# Altium footprint library Frost5000Beta_LIB_Integrados_PCB.PcbLib: 12 footprints
Each footprint in its own frame and in the unit in brackets; x right, y up, seen from the top. Pads: shape width x height; smd on the part's side, far side on the other; paste and mask are expansions set on the pad; w line width, h text height; cw(c..) or ccw(c..) is an arc to the next point about the centre after c.
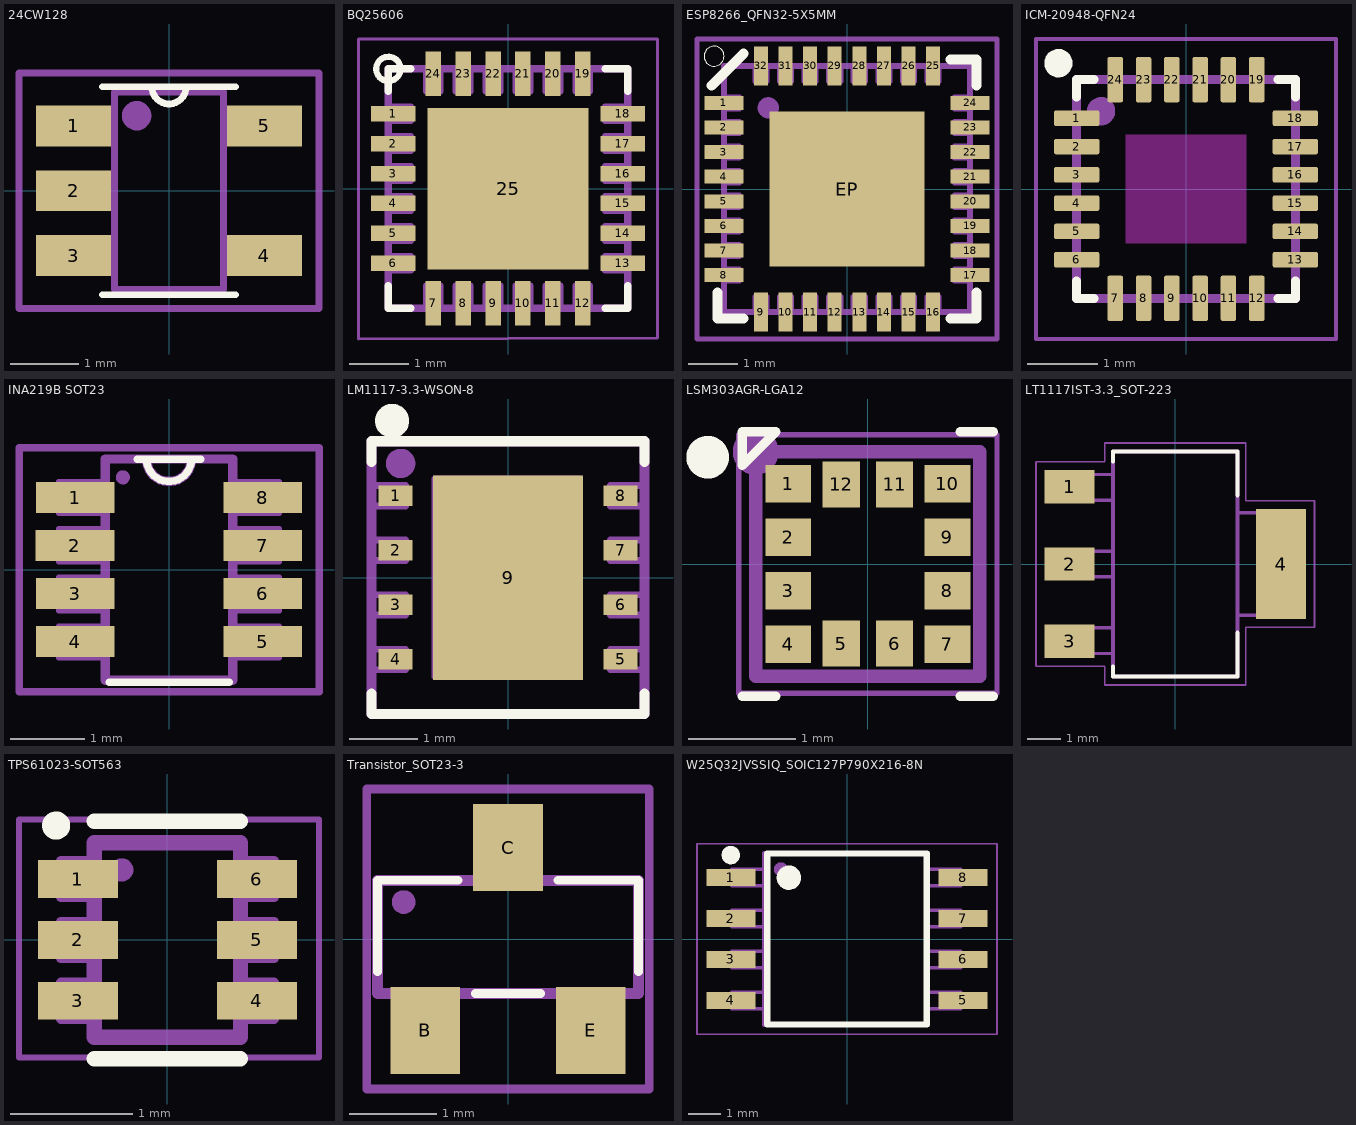
[diagram p0: the footprints below, top view; thin cyan lines are the x and y axes]

## 24CW128 [mm] "Footprint EEPROM SOT23"
pads (5):
  rect 1.1x0.6 smd: 1(-1.4,0.95) 2(-1.4,0) 3(-1.4,-0.95) 4(1.4,-0.95) 5(1.4,0.95)
Top Overlay:
  lines w0.1: -0.975,-1.525 0.975,-1.525 ; -0.975,1.525 0.975,1.525 ; -0.251,1.525 ccw(c0,1.525) 0.251,1.525
Mechanical 13:
  circle w0.25: c-0.475,1.1 r0.09
  lines w0.1: -0.8,-1.175 -1.425,-1.175 -1.425,-0.725 -0.8,-0.725 ; -0.8,-0.225 -1.425,-0.225 -1.425,0.225 -0.8,0.225 ; -0.8,0.725 -1.425,0.725 -1.425,1.175 -0.8,1.175 ; 0.8,0.725 1.425,0.725 1.425,1.175 0.8,1.175 ; 0.85,-1.175 1.475,-1.175 1.475,-0.725 0.85,-0.725 ; -0.8,-1.45 -0.8,1.45 0.8,1.45 0.8,-1.45 -0.8,-1.45
  text "'.Designator'" at -0.175,0.675 h0.5
Mechanical 15:
  lines w0.1: -2.2,-1.725 -2.2,1.725 2.2,1.725 2.2,-1.725 -2.2,-1.725
3D body "SOT-23-5-EEPROM.step": height 1.11, standoff 0.01, extent -1.25,-1.5 1.25,1.5

## BQ25606 [mm] "Footprint BQ25606 Charger"
pads (25):
  rect 0.74x0.26 smd mask+0.065: 1(-1.92,1.25) 2(-1.92,0.75) 3(-1.92,0.25) 4(-1.92,-0.25) 5(-1.92,-0.75) 6(-1.92,-1.25) 13(1.92,-1.25) 14(1.92,-0.75) 15(1.92,-0.25) 16(1.92,0.25) 17(1.92,0.75) 18(1.92,1.25)
  rect 0.26x0.74 smd mask+0.065: 7(-1.25,-1.92) 8(-0.75,-1.92) 9(-0.25,-1.92) 10(0.25,-1.92) 11(0.75,-1.92) 12(1.25,-1.92) 19(1.25,1.92) 20(0.75,1.92) 21(0.25,1.92) 22(-0.25,1.92) 23(-0.75,1.92) 24(-1.25,1.92)
  rect 2.7x2.7 smd mask+0.065: 25(0,0)
Top Overlay:
  circle w0.102: c-2,2 r0.203
  lines w0.127: -2,-1.63 -2,-2 -1.63,-2 ; -2,1.63 -2,2 -1.63,2 ; 1.63,-2 2,-2 2,-1.63 ; 1.63,2 2,2 2,1.63
Top Paste:
  region: 0.13,-0.13 1.09,-0.13 1.09,-1.093 0.13,-1.093
  region: -1.092,-0.13 -0.13,-0.13 -0.13,-1.092 -1.092,-1.092
  region: -1.091,1.09 -0.13,1.09 -0.13,0.13 -1.091,0.13
  region: 0.13,1.09 1.09,1.09 1.09,0.13 0.13,0.13
Mechanical 13:
  circle w0.25: c-1.125,1.125 r0.09
  lines w0.1: -2,-1.375 -1.625,-1.375 -1.625,-1.125 -2,-1.125 ; -2,-0.875 -1.625,-0.875 -1.625,-0.625 -2,-0.625 ; -2,-0.375 -1.625,-0.375 -1.625,-0.125 -2,-0.125 ; -2,0.125 -1.625,0.125 -1.625,0.375 -2,0.375 ; -2,0.625 -1.625,0.625 -1.625,0.875 -2,0.875 ; -2,1.125 -1.625,1.125 -1.625,1.375 -2,1.375 ; -1.375,-2 -1.375,-1.625 -1.125,-1.625 -1.125,-2 ; -1.375,2 -1.375,1.625 -1.125,1.625 -1.125,2 ; -0.875,-2 -0.875,-1.625 -0.625,-1.625 -0.625,-2 ; -0.875,2 -0.875,1.625 -0.625,1.625 -0.625,2 ; -0.375,-2 -0.375,-1.625 -0.125,-1.625 -0.125,-2 ; -0.375,2 -0.375,1.625 -0.125,1.625 -0.125,2 ; 0.125,-2 0.125,-1.625 0.375,-1.625 0.375,-2 ; 0.125,2 0.125,1.625 0.375,1.625 0.375,2 ; 0.625,-2 0.625,-1.625 0.875,-1.625 0.875,-2 ; 0.625,2 0.625,1.625 0.875,1.625 0.875,2 ; 1.125,-2 1.125,-1.625 1.375,-1.625 1.375,-2 ; 1.125,2 1.125,1.625 1.375,1.625 1.375,2 ; 2,-1.375 1.625,-1.375 1.625,-1.125 2,-1.125 ; 2,-0.875 1.625,-0.875 1.625,-0.625 2,-0.625 ; 2,-0.375 1.625,-0.375 1.625,-0.125 2,-0.125 ; 2,0.125 1.625,0.125 1.625,0.375 2,0.375 ; 2,0.625 1.625,0.625 1.625,0.875 2,0.875 ; 2,1.125 1.625,1.125 1.625,1.375 2,1.375
  lines w0.127: -2,-2 2,-2 ; -2,-2 2,-2 ; -2,-2 -2,2 ; -2,-2 -2,2 ; -2,2 2,2 ; -2,2 2,2 ; 2,-2 2,2 ; 2,-2 2,2
  text "'.Designator'" at -1.125,-0.2 h0.5
Mechanical 15:
  lines w0.05: -2.5,-2.516 2.5,-2.5 2.5,2.5 -2.5,2.5 -2.5,-2.516
3D body "BQ25606-VQFN24.step": height 1.07, standoff -0.01, extent -2.05,-2.05 2.05,2.05

## ESP8266_QFN32-5X5MM [mm] "Footprint del ESP8266EX"
pads (33):
  rect 0.8x0.285 smd mask+0.065: 1(-2.5,1.75) 2(-2.5,1.25) 3(-2.5,0.75) 4(-2.5,0.25) 5(-2.5,-0.25) 6(-2.5,-0.75) 7(-2.5,-1.25) 8(-2.5,-1.75) 17(2.5,-1.75) 18(2.5,-1.25) 19(2.5,-0.75) 20(2.5,-0.25) 21(2.5,0.25) 22(2.5,0.75) 23(2.5,1.25) 24(2.5,1.75)
  rect 0.285x0.8 smd mask+0.065: 9(-1.75,-2.5) 10(-1.25,-2.5) 11(-0.75,-2.5) 12(-0.25,-2.5) 13(0.25,-2.5) 14(0.75,-2.5) 15(1.25,-2.5) 16(1.75,-2.5) 25(1.75,2.5) 26(1.25,2.5) 27(0.75,2.5) 28(0.25,2.5) 29(-0.25,2.5) 30(-0.75,2.5) 31(-1.25,2.5) 32(-1.75,2.5)
  rect 3.15x3.15 smd paste-3: EP(0,0)
Top Overlay:
  circle w0: c-2.7,2.7 r0.203
  lines w0.203: -2.754,2.1 -2.1,2.754 ; -2.627,-2.1 -2.627,-2.627 -2.1,-2.627 ; 2.1,-2.627 2.627,-2.627 2.627,-2.1 ; 2.1,2.627 2.627,2.627 2.627,2.1
Top Paste:
  region: -0.15,0.15 -1.45,0.15 -1.45,1.45 -0.15,1.45
  region: 1.45,0.15 0.15,0.15 0.15,1.45 1.45,1.45
  region: -0.15,-1.45 -1.45,-1.45 -1.45,-0.15 -0.15,-0.15
  region: 1.45,-1.45 0.15,-1.45 0.15,-0.15 1.45,-0.15
Mechanical 13:
  circle w0.25: c-1.6,1.65 r0.09
  lines w0.1: -2.5,-1.875 -2.18,-1.875 -2.18,-1.625 -2.5,-1.625 ; -2.5,-1.375 -2.18,-1.375 -2.18,-1.125 -2.5,-1.125 ; -2.5,-0.875 -2.18,-0.875 -2.18,-0.625 -2.5,-0.625 ; -2.5,-0.375 -2.18,-0.375 -2.18,-0.125 -2.5,-0.125 ; -2.5,0.125 -2.18,0.125 -2.18,0.375 -2.5,0.375 ; -2.5,0.625 -2.18,0.625 -2.18,0.875 -2.5,0.875 ; -2.5,1.125 -2.18,1.125 -2.18,1.375 -2.5,1.375 ; -2.5,1.625 -2.18,1.625 -2.18,1.875 -2.5,1.875 ; -1.875,-2.5 -1.875,-2.18 -1.625,-2.18 -1.625,-2.5 ; -1.875,2.5 -1.875,2.18 -1.625,2.18 -1.625,2.5 ; -1.375,-2.5 -1.375,-2.18 -1.125,-2.18 -1.125,-2.5 ; -1.375,2.5 -1.375,2.18 -1.125,2.18 -1.125,2.5 ; -0.875,-2.5 -0.875,-2.18 -0.625,-2.18 -0.625,-2.5 ; -0.875,2.5 -0.875,2.18 -0.625,2.18 -0.625,2.5 ; -0.375,-2.5 -0.375,-2.18 -0.125,-2.18 -0.125,-2.5 ; -0.375,2.5 -0.375,2.18 -0.125,2.18 -0.125,2.5 ; 0.125,-2.5 0.125,-2.18 0.375,-2.18 0.375,-2.5 ; 0.125,2.5 0.125,2.18 0.375,2.18 0.375,2.5 ; 0.625,-2.5 0.625,-2.18 0.875,-2.18 0.875,-2.5 ; 0.625,2.5 0.625,2.18 0.875,2.18 0.875,2.5 ; 1.125,-2.5 1.125,-2.18 1.375,-2.18 1.375,-2.5 ; 1.125,2.5 1.125,2.18 1.375,2.18 1.375,2.5 ; 1.625,-2.5 1.625,-2.18 1.875,-2.18 1.875,-2.5 ; 1.625,2.5 1.625,2.18 1.875,2.18 1.875,2.5 ; 2.5,-1.875 2.18,-1.875 2.18,-1.625 2.5,-1.625 ; 2.5,-1.375 2.18,-1.375 2.18,-1.125 2.5,-1.125 ; 2.5,-0.875 2.18,-0.875 2.18,-0.625 2.5,-0.625 ; 2.5,-0.375 2.18,-0.375 2.18,-0.125 2.5,-0.125 ; 2.5,0.125 2.18,0.125 2.18,0.375 2.5,0.375 ; 2.5,0.625 2.18,0.625 2.18,0.875 2.5,0.875 ; 2.5,1.125 2.18,1.125 2.18,1.375 2.5,1.375 ; 2.5,1.625 2.18,1.625 2.18,1.875 2.5,1.875
  lines w0.127: -2.5,-2.5 2.5,-2.5 2.5,2.5 -2.5,2.5 -2.5,-2.5
  text "'.Designator'" at -1.125,-0.2 h0.5
Mechanical 15:
  lines w0.102: -3.048,-3.048 -3.048,3.048 3.048,3.048 3.048,-3.048 -3.048,-3.048
3D body: height 1.55, standoff 0, extent 0,0 0,0
3D body "ESP8266EX.STEP": height 0.91, standoff 0.01, extent -2.5,-2.5 2.5,2.5

## ICM-20948-QFN24 [mm] "Footprint ICM-20948"
pads (24):
  rrect25% 0.64x0.22 smd mask+0.06: 1(-1.545,1) 2(-1.545,0.6) 3(-1.545,0.2) 4(-1.545,-0.2) 5(-1.545,-0.6) 6(-1.545,-1) 13(1.545,-1) 14(1.545,-0.6) 15(1.545,-0.2) 16(1.545,0.2) 17(1.545,0.6) 18(1.545,1)
  rrect25% 0.22x0.64 smd mask+0.06: 7(-1,-1.545) 8(-0.6,-1.545) 9(-0.2,-1.545) 10(0.2,-1.545) 11(0.6,-1.545) 12(1,-1.545) 19(1,1.545) 20(0.6,1.545) 21(0.2,1.545) 22(-0.2,1.545) 23(-0.6,1.545) 24(-1,1.545)
Top Overlay:
  circle w0.2: c-1.803,1.778 r0.1
  lines w0.127: -1.55,-1.3 -1.55,-1.55 -1.3,-1.55 ; -1.55,1.3 -1.55,1.55 -1.3,1.55 ; 1.3,-1.55 1.55,-1.55 1.55,-1.3 ; 1.3,1.55 1.55,1.55 1.55,1.3
Keep-Out Layer:
  region: 0.85,-0.77 -0.85,-0.77 -0.85,0.77 0.85,0.77
  region: 0.85,-0.77 -0.85,-0.77 -0.85,0.77 0.85,0.77
Mechanical 13:
  circle w0.2: c-1.2,1.1 r0.1
  lines w0.127: -1.55,-1.55 -1.55,1.55 1.55,1.55 1.55,-1.55 -1.55,-1.55
  text "'.Designator'" at -0.85,-0.25 h0.5
Mechanical 15:
  lines w0.05: -2.12,-2.12 -2.12,2.12 2.12,2.12 2.12,-2.12 -2.12,-2.12
3D body "ICM-20948.step": height 1.01, standoff 0.01, extent -1.499,-1.53 1.511,1.48

## INA219B SOT23 [mm] "Current Monitor"
pads (8):
  rect 1.067x0.42 smd mask+0.09: 1(-1.27,0.975) 2(-1.275,0.325) 3(-1.27,-0.325) 4(-1.27,-0.975) 5(1.27,-0.975) 6(1.27,-0.325) 7(1.27,0.325) 8(1.27,0.975)
Top Overlay:
  lines w0.102: -0.813,-1.524 0.813,-1.524 ; -0.432,1.499 -0.305,1.499 ; 0.432,1.499 0.305,1.499 ; -0.305,1.499 ccw(c0,1.499) 0.305,1.499 ; -0.305,1.499 0.305,1.499
Mechanical 13:
  circle w0.1: c-0.625,1.25 r0.045
  lines w0.07: -0.864,-1.194 -1.499,-1.194 -1.499,-0.762 -0.864,-0.762 ; -0.864,-0.559 -1.499,-0.559 -1.499,-0.102 -0.864,-0.102 ; -0.864,0.102 -1.499,0.102 -1.499,0.559 -0.864,0.559 ; -0.864,0.762 -1.499,0.762 -1.499,1.194 -0.864,1.194 ; 0.864,-1.194 1.499,-1.194 1.499,-0.762 0.864,-0.762 ; 0.864,-0.559 1.499,-0.559 1.499,-0.102 0.864,-0.102 ; 0.864,0.102 1.499,0.102 1.499,0.559 0.864,0.559 ; 0.864,0.762 1.499,0.762 1.499,1.194 0.864,1.194
  lines w0.127: -0.305,1.499 ccw(c0,1.499) 0.305,1.499 ; -0.305,1.499 0.305,1.499 ; -0.305,1.499 -0.864,1.499 -0.864,1.194 -0.864,0.762 -0.864,0.559 -0.864,0.102 -0.864,-0.102 -0.864,-0.559 -0.864,-0.762 -0.864,-1.194 -0.864,-1.499 0.864,-1.499 0.864,-1.194 0.864,-0.762 0.864,-0.559 0.864,-0.102 0.864,0.102 0.864,0.559 0.864,0.762 0.864,1.194 0.864,1.499 0.305,1.499
  text "'.Designator'" at -0.225,0.475 h0.5
Mechanical 15:
  lines w0.102: -2.032,-1.651 -2.032,1.651 2.032,1.651 2.032,-1.651 -2.032,-1.651
3D body "INA219_SOT23.STEP": height 1.2, standoff 0, extent -1.4,-1.47 1.4,1.47

## LM1117-3.3-WSON-8 [mm] "Footprint del LDO de Texas"
pads (9):
  rect 0.5x0.3 smd mask+0.07: 1(-1.65,1.2) 2(-1.65,0.4) 3(-1.65,-0.4) 4(-1.65,-1.2) 5(1.65,-1.2) 6(1.65,-0.4) 7(1.65,0.4) 8(1.65,1.2)
  rect 2.2x3 smd mask+0.07: 9(0,0)
Top Overlay:
  circle w0.3: c-1.7,2.3 r0.1
  lines w0.15: -2,-1.7 -2,-2 2,-2 2,-1.7 ; -2,1.7 -2,2 2,2 2,1.7
Mechanical 13:
  circle w0.25: c-1.575,1.675 r0.09
  lines w0.1: -2,-1.35 -1.5,-1.35 -1.5,-1.05 -2,-1.05 ; -2,-0.55 -1.5,-0.55 -1.5,-0.25 -2,-0.25 ; -2,0.25 -1.5,0.25 -1.5,0.55 -2,0.55 ; -2,1.05 -1.5,1.05 -1.5,1.35 -2,1.35 ; 2,-1.35 1.5,-1.35 1.5,-1.05 2,-1.05 ; 2,-0.55 1.5,-0.55 1.5,-0.25 2,-0.25 ; 2,0.25 1.5,0.25 1.5,0.55 2,0.55 ; 2,1.05 1.5,1.05 1.5,1.35 2,1.35 ; -1.075,-1.45 -1.075,1.45 1.05,1.45 1.05,-1.45 -1.075,-1.45
  lines w0.127: -2,-2 -2,2 2,2 2,-2 -2,-2
  text "'.Designator'" at -0.725,-0.25 h0.5
Mechanical 15:
  lines w0.15: -2,-2 -2,2 ; -2,-2 2,-2 ; -2,-2 2,-2 ; -2,-2 -2,2 ; -2,-2 2,-2 ; -2,-2 -2,2 ; -2,2 2,2 ; -2,2 2,2 ; -2,2 2,2 ; 2,-2 2,2 ; 2,-2 2,2 ; 2,-2 2,2
3D body "LM1117-33-WSON.STEP": height 0.81, standoff 0.01, extent -2.001,-2 2.001,2

## LSM303AGR-LGA12 [mm] "Footprint LSM303AGR"
pads (12):
  rect 0.43x0.35 smd mask+0.033: 1(-0.745,0.75) 2(-0.745,0.25) 3(-0.745,-0.25) 4(-0.745,-0.75) 7(0.745,-0.75) 8(0.745,-0.25) 9(0.745,0.25) 10(0.745,0.75)
  rect 0.35x0.43 smd mask+0.033: 5(-0.25,-0.745) 6(0.25,-0.745) 11(0.25,0.745) 12(-0.25,0.745)
Top Overlay:
  circle w0.2: c-1.5,1 r0.1
  lines w0.09: -1.175,-1.239 -0.865,-1.239 ; 0.865,-1.239 1.175,-1.239 ; 0.865,1.239 1.175,1.239 ; -1.175,0.925 -0.861,1.239 -1.175,1.239 -1.175,0.925
Mechanical 13:
  circle w0.25: c-1.05,1.05 r0.09
  lines w0.05: -0.875,-0.875 -0.875,-0.65 -0.625,-0.65 -0.625,-0.875 -0.875,-0.875 ; -0.875,-0.35 -0.875,-0.125 -0.625,-0.125 -0.625,-0.35 -0.875,-0.35 ; -0.875,0.15 -0.875,0.375 -0.625,0.375 -0.625,0.15 -0.875,0.15 ; -0.875,0.65 -0.625,0.65 -0.625,0.875 -0.875,0.875 -0.875,0.65 ; -0.375,-0.875 -0.375,-0.65 -0.125,-0.65 -0.125,-0.875 -0.375,-0.875 ; -0.375,0.65 -0.375,0.875 -0.125,0.875 -0.125,0.65 -0.375,0.65 ; 0.125,-0.875 0.125,-0.65 0.375,-0.65 0.375,-0.875 0.125,-0.875 ; 0.125,0.65 0.125,0.875 0.375,0.875 0.375,0.65 0.125,0.65 ; 0.625,-0.875 0.625,-0.65 0.875,-0.65 0.875,-0.875 0.625,-0.875 ; 0.625,-0.35 0.625,-0.125 0.875,-0.125 0.875,-0.35 0.625,-0.35 ; 0.625,0.15 0.625,0.375 0.875,0.375 0.875,0.15 0.625,0.15 ; 0.625,0.65 0.625,0.875 0.875,0.875 0.875,0.65 0.625,0.65
  lines w0.127: -1.05,-1.05 1.05,-1.05 1.05,1.05 -1.05,1.05 -1.05,-1.05
  text "'.Designator'" at -0.35,-0.15 h0.35
Mechanical 15:
  lines w0.05: -1.21,-1.21 -1.21,1.21 1.21,1.21 1.21,-1.21 -1.21,-1.21
3D body "LSM303AGR-LGA12.step": height 0.97, standoff 0.01, extent -1,-1 1,1

## LT1117IST-3.3_SOT-223 [mil] "Regulador 3.3V"
pads (4):
  rect 59x39 smd: 1(-124,90.5) 2(-124,0) 3(-124,-90.5)
  rect 59x129 smd: 4(124,0)
Top Overlay:
  lines w5: -73,-120.08 -73,-131.89 73,-131.89 73,-80.71 ; -73,120.08 -73,131.89 73,131.89 73,80.71
Mechanical 13:
  lines w4: -75,-75 -115,-75 -115,-105 -73,-105 ; -73,-15 -115,-15 -115,15 -73,15 ; -73,75 -115,75 -115,105 -73,105 ; 73,-60 115,-60 115,60 73,60
  lines w5: -73,-132 73,-132 73,132 -73,132 -73,-132
Mechanical 15:
  lines w1.97: -163.34,-119.84 -82.84,-119.84 -82.84,-141.84 82.84,-141.84 82.84,-74.34 163.34,-74.34 163.34,74.34 82.84,74.34 82.84,141.84 -82.84,141.84 -82.84,119.84 -163.34,119.84 -163.34,-119.84
3D body "LT1171ST-3V3_SOT223.STEP": height 66.64, standoff 0.5, extent -137.01,-127.94 137.01,127.96

## PCBComponent_1 [mm]

## TPS61023-SOT563 [mm] "Footprint Boost"
pads (6):
  rect 0.66x0.31 smd mask+0.07: 1(-0.735,0.5) 2(-0.735,0) 3(-0.735,-0.5) 4(0.735,-0.5) 5(0.735,0) 6(0.735,0.5)
Top Overlay:
  circle w0.13: c-0.914,0.94 r0.05
  lines w0.127: -0.6,-0.975 0.6,-0.975 ; -0.6,0.975 0.6,0.975
Mechanical 13:
  circle w0.1: c-0.375,0.575 r0.045
  lines w0.08: -0.6,-0.65 -0.875,-0.65 -0.875,-0.35 -0.6,-0.35 ; -0.6,-0.15 -0.875,-0.15 -0.875,0.15 -0.6,0.15 ; -0.6,0.35 -0.875,0.35 -0.875,0.65 -0.6,0.65 ; 0.6,-0.65 0.875,-0.65 0.875,-0.35 0.6,-0.35 ; 0.6,-0.15 0.875,-0.15 0.875,0.15 0.6,0.15 ; 0.6,0.35 0.875,0.35 0.875,0.65 0.6,0.65
  lines w0.127: -0.6,-0.8 -0.6,0.8 0.6,0.8 0.6,-0.8 -0.6,-0.8
  text "'.Designator'" at -0.15,0.275 h0.35
Mechanical 15:
  lines w0.05: -1.219,-0.965 -1.219,0.991 1.245,0.991 1.245,-0.965 -1.219,-0.965
3D body "TPS61023-SOT563.step": height 0.6, standoff 0.01, extent -0.813,-0.8 0.813,0.8

## Transistor_SOT23-3 [mm] "Transistor NPN"
pads (3):
  rect 0.8x1 smd: B(-0.95,-1.05) C(0,1.05) E(0.95,-1.05)
Top Overlay:
  lines w0.102: -1.5,-0.375 -1.5,0.675 -0.575,0.675 ; -0.375,-0.625 0.375,-0.625 ; 0.575,0.675 1.5,0.675 1.5,-0.375
Mechanical 13:
  circle w0.2: c-1.2,0.425 r0.035
  lines w0.102: -1.2,-0.625 -1.2,-1.25 -0.725,-1.25 -0.725,-0.625 ; -0.225,0.675 -0.225,1.25 0.25,1.25 0.25,0.7 ; 0.725,-0.625 0.725,-1.25 1.2,-1.25 1.2,-0.625
  lines w0.127: -1.5,-0.625 -1.5,0.675 1.5,0.675 1.5,-0.625 -1.5,-0.625
  text "'.Designator'" at -1.025,-0.375 h0.5
Mechanical 15:
  lines w0.102: -1.625,-1.725 1.625,-1.725 1.625,1.725 -1.625,1.725 -1.625,-1.725
3D body "SOT-23_TransistorNPN.step": height 1.11, standoff 0.01, extent -1.5,-1.25 1.5,1.25

## W25Q32JVSSIQ_SOIC127P790X216-8N [mil] "Memoria Flash SOIC8 SS"
pads (8):
  rect 60x21 smd: 1(-141.73,75) 2(-141.73,25) 3(-141.73,-25) 4(-141.73,-75) 5(141.73,-75) 6(141.73,-25) 7(141.73,25) 8(141.73,75)
Top Overlay:
  circle w5: c-70.87,74.8 r12.45
  circle w5: c-70.87,74.8 r8.8
  circle w5: c-70.87,74.8 r5.57
  circle w5: c-70.87,74.8 r3.94
  circle w5: c-70.87,70.87 r3.94
  circle w5: c-141.73,102.36 r8.8
  circle w5: c-137.8,102.36 r3.94
  circle w5: c-141.73,102.36 r3.94
  lines w7.87: -97.44,-104.33 97.44,-104.33 97.44,104.33 -97.44,104.33 -97.44,-104.33
Mechanical 13:
  circle w9.84: c-80.71,85 r3.54
  lines w4: -100.98,-85 -140.98,-85 -140.98,-65 -100.98,-65 ; -100.98,-35 -140.98,-35 -140.98,-15 -100.98,-15 ; -100.98,15 -140.98,15 -140.98,35 -100.98,35 ; -100.98,65 -140.98,65 -140.98,85 -100.98,85 ; 99.02,-85 139.02,-85 139.02,-65 99.02,-65 ; 99.02,-35 139.02,-35 139.02,-15 99.02,-15 ; 99.02,15 139.02,15 139.02,35 99.02,35 ; 99.02,65 139.02,65 139.02,85 99.02,85
  lines w5: -100.98,-105 99.02,-105 99.02,105 -100.98,105 -100.98,-105
  text "'.Designator'" at -48.23,-5.91 h19.68
Mechanical 15:
  lines w1.97: -183.07,-116.14 183.07,-116.14 183.07,116.14 -183.07,116.14 -183.07,-116.14
3D body "W25Q32JV_SOIC-8-208.STEP": height 85.16, standoff 0.48, extent -161.41,-106.31 161.42,106.31